# Altium schematic symbol library TC264Schlib.SchLib: 4 symbols
Pins are listed as number, name and electrical type; pins without a type are passive.

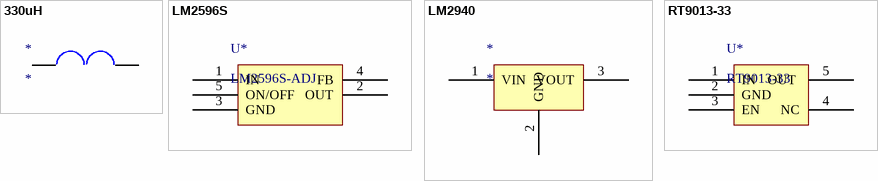
[diagram p0: symbols 330uH to RT9013-33]

## 330uH
designator *
footprint 330uH
pins: 1 (oc), 2 (oc)

## LM2596S
designator U*, comment LM2596S-ADJ
footprint TO263-5
pins: 1 IN (oc), 2 OUT (oc), 3 GND (oc), 4 FB (oc), 5 ON/OFF (oc)

## LM2940
designator *
footprint LM2940-5.0
pins: 1 VIN (oc), 2 GND (oc), 3 VOUT (oc)

## RT9013-33
designator U*
footprint SOT-23-5
pins: 1 IN (oc), 2 GND (oc), 3 EN (oc), 4 NC (oc), 5 OUT  (oc)